# Altium schematic symbol library S3P.SchLib: 18 symbols
Pins are listed as number, name and electrical type; pins without a type are passive.

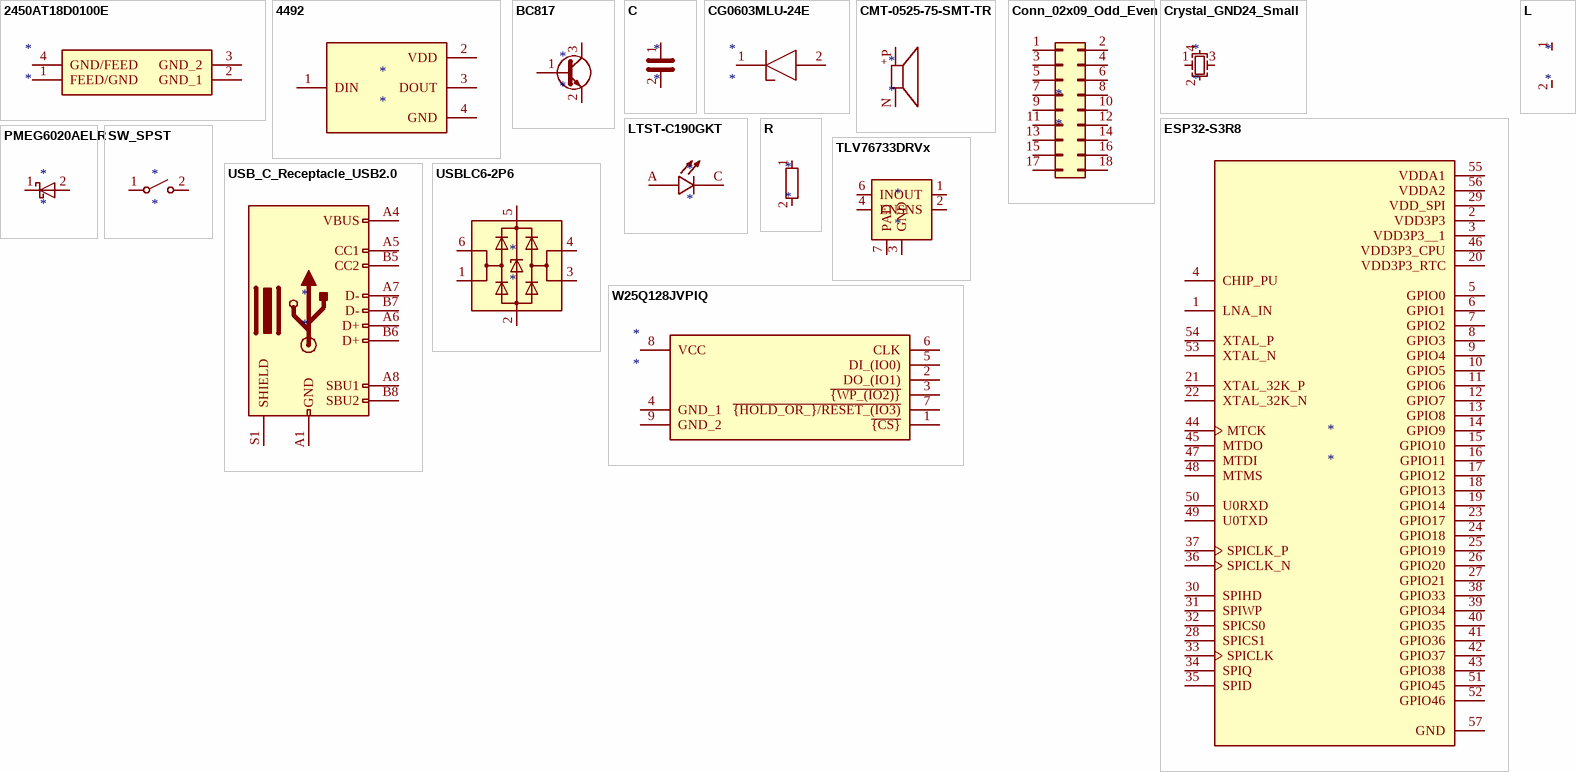
[diagram p0: symbols 2450AT18D0100E to W25Q128JVPIQ]

## 2450AT18D0100E
designator *
pins: 1 FEED/GND, 2 GND_1, 3 GND_2, 4 GND/FEED

## 4492
designator *
pins: 1 DIN, 2 VDD, 3 DOUT, 4 GND

## BC817
designator *
pins: 1 B, 2 E, 3 C

## C
designator *
pins: 1, 2

## CG0603MLU-24E
designator *
pins: 1 K, 2 A

## CMT-0525-75-SMT-TR
designator *
pins: N, P
text: +; -

## Conn_02x09_Odd_Even
designator *
pins: 1 Pin_1, 2 Pin_2, 3 Pin_3, 4 Pin_4, 5 Pin_5, 6 Pin_6, 7 Pin_7, 8 Pin_8, 9 Pin_9, 10 Pin_10, 11 Pin_11, 12 Pin_12, 13 Pin_13, 14 Pin_14, 15 Pin_15, 16 Pin_16, 17 Pin_17, 18 Pin_18

## Crystal_GND24_Small
designator *
pins: 1, 2, 3, 4

## ESP32-S3R8
designator *
pins: 1 LNA_IN, 2 VDD3P3, 3 VDD3P3__1, 4 CHIP_PU, 5 GPIO0, 6 GPIO1, 7 GPIO2, 8 GPIO3, 9 GPIO4, 10 GPIO5, 11 GPIO6, 12 GPIO7, 13 GPIO8, 14 GPIO9, 15 GPIO10, 16 GPIO11, 17 GPIO12, 18 GPIO13, 19 GPIO14, 20 VDD3P3_RTC, 21 XTAL_32K_P, 22 XTAL_32K_N, 23 GPIO17, 24 GPIO18, 25 GPIO19, 26 GPIO20, 27 GPIO21, 28 SPICS1, 29 VDD_SPI, 30 SPIHD, 31 SPIWP, 32 SPICS0, 33 SPICLK, 34 SPIQ, 35 SPID, 36 SPICLK_N, 37 SPICLK_P, 38 GPIO33, 39 GPIO34, 40 GPIO35, 41 GPIO36, 42 GPIO37, 43 GPIO38, 44 MTCK, 45 MTDO, 46 VDD3P3_CPU, 47 MTDI, 48 MTMS, 49 U0TXD, 50 U0RXD, 51 GPIO45, 52 GPIO46, 53 XTAL_N, 54 XTAL_P, 55 VDDA1, 56 VDDA2, 57 GND

## L
designator *
pins: 1, 2

## LTST-C190GKT
designator *
pins: A, C

## PMEG6020AELR
designator *
pins: 1 K, 2 A

## R
designator *
pins: 1, 2

## SW_SPST
designator *
pins: 1 A, 2 B

## TLV76733DRVx
designator *
pins: 1 OUT, 2 SNS, 3 GND, 4 EN, 5 GND hidden, 6 IN, 7 PAD

## USB_C_Receptacle_USB2.0
designator *
pins: A1 GND, A4 VBUS, A5 CC1, A6 D+, A7 D-, A8 SBU1, A9 VBUS hidden, A12 GND hidden, B1 GND hidden, B4 VBUS hidden, B5 CC2, B6 D+, B7 D-, B8 SBU2, B9 VBUS hidden, B12 GND hidden, S1 SHIELD

## USBLC6-2P6
designator *
pins: 1 I/O1, 2 GND, 3 I/O2, 4 I/O2, 5 VBUS, 6 I/O1

## W25Q128JVPIQ
designator *
pins: 1 ~{{CS}}, 2 DO_(IO1), 3 ~{{WP_(IO2)}}, 4 GND_1, 5 DI_(IO0), 6 CLK, 7 ~{{HOLD_OR_}/RESET_(IO3)}, 8 VCC, 9 GND_2